# EAGLE library part TPS7A49* (library ti)
Ultralow-Noise, Positive LINEAR REGULATOR, +36V, +150mA WITH 8-PIN PSOP PACKAGING Source: http://www.ti.com/lit/ds/symlink/tps7a4901.pdf
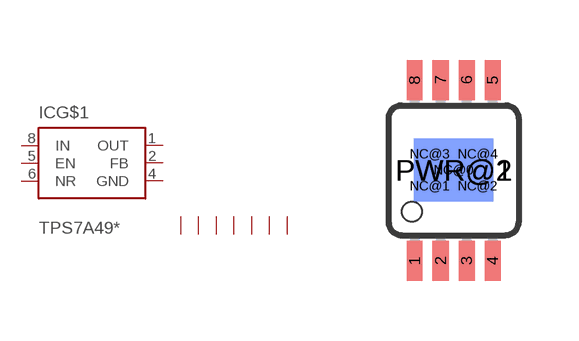
[diagram p2: symbol with the pads of MSOP08; footprint MSOP08]

Designator prefix IC; gates G$1=TPS7A49* G$2=TPS7A49PWRPAD

## TPS7A4901, TPS7A49XX  [MSOP08]
1  G$1:OUT  out
2  G$1:FB  in
4  G$1:GND  pwr
5  G$1:EN  in
6  G$1:NR  in
8  G$1:IN  in
NC@0  G$2:GND  pwr
NC@1  G$2:GND  pwr
NC@2  G$2:GND  pwr
NC@3  G$2:GND  pwr
NC@4  G$2:GND  pwr
PWR@1  G$2:GND  pwr
PWR@2  G$2:GND  pwr

## Footprint MSOP08 (pad centres in mm)
8-Lead micro SO PowerPAD Source: http://www.ti.com/lit/ds/symlink/tps7a4901.pdf
smd 0.4 x 1: 1 -0.976,-2.263; 2 -0.326,-2.263; 3 0.324,-2.263; 4 0.974,-2.263; 5 0.974,2.262; 6 0.324,2.262; 7 -0.326,2.262; 8 -0.976,2.262
drill 0.2 square: NC@0 0,0; NC@1 -0.6,-0.4; NC@2 0.6,-0.4; NC@3 -0.6,0.4; NC@4 0.6,0.4
smd 1.981 x 1.575 bottom: PWR@1 0,0
smd 1.981 x 1.575: PWR@2 0,0